# Altium footprint library SparkFun-Switches.PCBLIB: 68 footprints (part 5 of 7)
Each footprint in its own frame and in the unit in brackets; x right, y up, seen from the top. Pads: shape width x height; smd on the part's side, far side on the other; paste and mask are expansions set on the pad; w line width, h text height; cw(c..) or ccw(c..) is an arc to the next point about the centre after c.
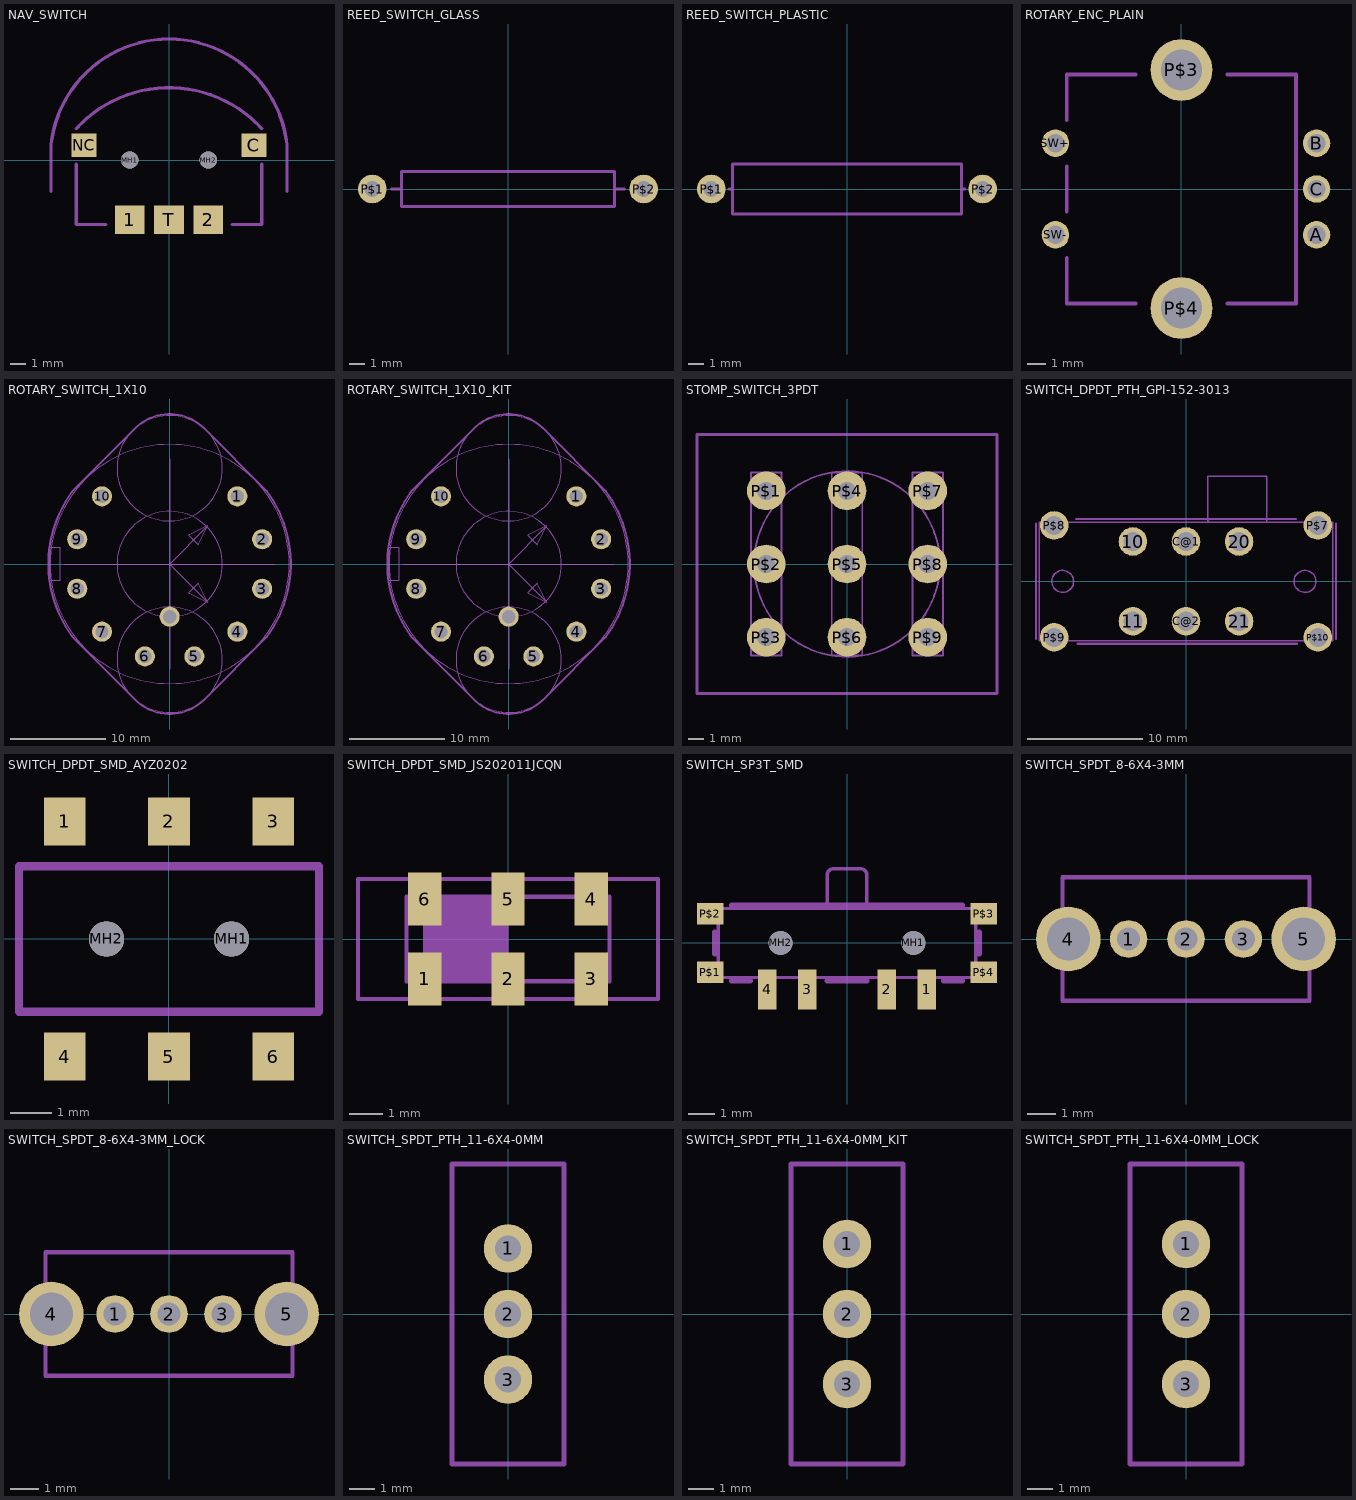
[diagram p4: the footprints below, top view; thin cyan lines are the x and y axes]

## NAV_SWITCH [mil]
pads (7):
  rect 74.8x70.87 smd: 1(-98.43,-149.61) 2(98.43,-149.61) T(0,-149.61)
  rect 62.99x59.06 smd: C(212.6,37.4) NC(-212.6,37.4)
  round 43.31 hole 43.31 unplated: MH1(-98.43,0) MH2(98.43,0)
tDocu:
  lines w8: -295.28,-78.74 -295.28,39.37 cw(c0,5.99) 295.28,39.37 295.28,-78.74
tPlace:
  lines w8: -232.28,-9.84 -232.28,-161.42 -157.48,-161.42 ; -232.28,78.74 cw(c0,-133.63) 232.28,78.74 ; 157.48,-161.42 232.28,-161.42 232.28,-9.84

## REED_SWITCH_GLASS [mil]
pads (2):
  round 74 hole 40: P$1(-350,0) P$2(350,0)
tPlace:
  lines w8: -300,0 -275,0 ; 300,0 275,0 ; -275,0 -275,-45 275,-45 275,0 ; -275,0 -275,45 275,45 275,0

## REED_SWITCH_PLASTIC [mil]
pads (2):
  round 74 hole 40: P$1(-350,0) P$2(350,0)
tPlace:
  lines w8: -303.94,0 -295.28,0 ; 303.94,0 295.28,0 ; -295.28,0 -295.28,-64.96 295.28,-64.96 295.28,0 ; -295.28,0 -295.28,64.96 295.28,64.96 295.28,0

## ROTARY_ENC_PLAIN [mil]
pads (7):
  round 60 hole 40: A(295,-100) B(295,100) C(295,0) SW+(-275,100) SW-(-275,-100)
  round 135 hole 90: P$3(0,260) P$4(0,-260)
tPlace:
  lines w8: -250,-150 -250,-250 -100,-250 ; -250,-50 -250,50 ; -250,150 -250,250 -100,250 ; 100,-250 250,-250 250,250 100,250

## ROTARY_SWITCH_1X10 [mil]
pads (11):
  round 82.68 hole 55.12: 1(278.39,278.39) 2(380.29,101.9) 3(380.29,-101.9) 4(278.39,-278.39) 5(101.9,-380.29) 6(-101.9,-380.29) 7(-278.39,-278.39) 8(-380.29,-101.9) 9(-380.29,101.9) 10(-278.39,278.39) COMMON(0,-216.54)
tDocu:
  circle w5: c0,0 r216.54
  circle w5: c0,0 r492.13
  circle w5: c0,393.7 r216.54
  circle w5: c0,-393.7 r216.54
  lines w5: -433.07,0 0,0 ; 0,-433.07 0,0 ; 0,433.07 0,0 ; 433.07,0 0,0 ; 0,0 157.48,-157.48 ; 0,0 157.48,157.48 ; 157.48,-157.48 118.11,-78.74 78.74,-118.11 157.48,-157.48 ; 157.48,157.48 78.74,118.11 118.11,78.74 157.48,157.48 ; -492.13,-68.9 -452.76,-68.9 -452.76,68.9 -492.13,68.9 -492.13,-68.9
  text "1" at 157.48,-196.85 h42.5
  text "10" at 157.48,157.48 h42.5
tPlace:
  lines w8: -415.1,-277.35 cw(c0.92,0) -415.1,277.35 -400,300 -141.42,558.58 cw(c0,417.16) 141.42,558.58 400,300 414.18,278.73 cw(c-3.91,0) 414.18,-278.73 400,-300 141.42,-558.58 cw(c0,-417.16) -141.42,-558.58 -400,-300 -415.1,-277.35

## ROTARY_SWITCH_1X10_KIT [mil]
pads (11):
  round 82.68 hole 55.12: 1(278.39,278.39) 2(380.29,101.9) 3(380.29,-101.9) 4(278.39,-278.39) 5(101.9,-380.29) 6(-101.9,-380.29) 7(-278.39,-278.39) 8(-380.29,-101.9) 9(-380.29,101.9) 10(-278.39,278.39) COMMON(0,-216.54)
Top Solder:
  circle w0: c-278.39,278.39 r27.56
  circle w0: c-380.29,101.9 r27.56
  circle w0: c-380.29,-101.9 r27.56
  circle w0: c-278.39,-278.39 r27.56
  circle w0: c0,-216.54 r27.56
  circle w0: c-101.9,-380.29 r27.56
  circle w0: c101.9,-380.29 r27.56
  circle w0: c278.39,-278.39 r27.56
  circle w0: c380.29,-101.9 r27.56
  circle w0: c380.29,101.9 r27.56
  circle w0: c278.39,278.39 r27.56
Bottom Solder:
  circle w0: c-278.39,278.39 r41.34
  circle w0: c-380.29,101.9 r41.34
  circle w0: c-380.29,-101.9 r41.34
  circle w0: c0,-216.54 r41.34
  circle w0: c-278.39,-278.39 r41.34
  circle w0: c-101.9,-380.29 r41.34
  circle w0: c101.9,-380.29 r41.34
  circle w0: c278.39,-278.39 r41.34
  circle w0: c380.29,-101.9 r41.34
  circle w0: c380.29,101.9 r41.34
  circle w0: c278.39,278.39 r41.34
tDocu:
  circle w5: c0,0 r216.54
  circle w5: c0,0 r492.13
  circle w5: c0,393.7 r216.54
  circle w5: c0,-393.7 r216.54
  lines w5: -433.07,0 0,0 ; 0,-433.07 0,0 ; 0,433.07 0,0 ; 433.07,0 0,0 ; 0,0 157.48,-157.48 ; 0,0 157.48,157.48 ; 157.48,-157.48 118.11,-78.74 78.74,-118.11 157.48,-157.48 ; 157.48,157.48 78.74,118.11 118.11,78.74 157.48,157.48 ; -492.13,-68.9 -452.76,-68.9 -452.76,68.9 -492.13,68.9 -492.13,-68.9
  text "1" at 157.48,-196.85 h42.5
  text "10" at 157.48,157.48 h42.5
tPlace:
  lines w8: -415.1,-277.35 cw(c0.92,0) -415.1,277.35 -400,300 -141.42,558.58 cw(c0,417.16) 141.42,558.58 400,300 414.18,278.73 cw(c-3.91,0) 414.18,-278.73 400,-300 141.42,-558.58 cw(c0,-417.16) -141.42,-558.58 -400,-300 -415.1,-277.35

## STOMP_SWITCH_3PDT [mil]
pads (9):
  round 100 hole 47.24: P$1(-208.66,188.98) P$2(-208.66,0) P$3(-208.66,-188.98) P$4(0,188.98) P$5(0,0) P$6(0,-188.98) P$7(208.66,188.98) P$8(208.66,0) P$9(208.66,-188.98)
tDocu:
  circle w5: c0,0 r240.16
  lines w5: -248.03,-236.22 -248.03,236.22 -169.29,236.22 -169.29,-236.22 -248.03,-236.22 ; -39.37,-236.22 39.37,-236.22 39.37,236.22 -39.37,236.22 -39.37,-236.22 ; 169.29,-236.22 169.29,236.22 248.03,236.22 248.03,-236.22 169.29,-236.22
tPlace:
  lines w8: -387.8,-334.65 387.8,-334.65 387.8,334.65 -387.8,334.65 -387.8,-334.65

## SWITCH_DPDT_PTH_GPI-152-3013 [mm]
pads (10):
  round 2.475 hole 1.65: 10(-4.6,3.455) 11(-4.6,-3.455) 20(4.6,3.455) 21(4.6,-3.455) C@1(0,3.455) C@2(0,-3.455) P$7(11.43,4.85) P$8(-11.43,4.85) P$9(-11.43,-4.85) P$10(11.43,-4.85)
tDocu:
  circle w0.127: c10.31,0 r0.952
  circle w0.127: c-10.69,0 r0.952
  lines w0.127: 2,5.2 1.9,5.2 1.9,9.1 7,9.1 7,5.2 ; -12.7,-5.13 -12.7,5.13 12.7,5.13 12.7,-5.13 -12.7,-5.13
tPlace:
  lines w0.203: -13,-5 -13,5 ; -9.5,5.4 9.5,5.4 ; -9.4,-5.4 9.6,-5.4 ; 13,-5 13,5

## SWITCH_DPDT_SMD_AYZ0202 [mm]
pads (8):
  rect 1x1.15 smd: 1(-2.5,2.825) 2(0,2.825) 3(2.5,2.825) 4(-2.5,-2.825) 5(0,-2.825) 6(2.5,-2.825)
  round 0.85 hole 0.85 unplated: MH1(1.5,0) MH2(-1.5,0)
tPlace:
  lines w0.203: -3.6,-1.75 -3.6,1.75 3.6,1.75 3.6,-1.75 -3.6,-1.75

## SWITCH_DPDT_SMD_JS202011JCQN [mm]
pads (6):
  rect 1x1.6 smd: 1(-2.5,-1.2) 2(0,-1.2) 3(2.5,-1.2) 4(2.5,1.2) 5(0,1.2) 6(-2.5,1.2)
tDocu:
  region: -2.54,-1.27 -2.54,1.27 0,1.27 0,-1.27
  lines w0.127: -3.048,-1.27 3.048,-1.27 3.048,1.27 -3.048,1.27 -3.048,-1.27
tPlace:
  lines w0.127: -4.5,-1.8 4.5,-1.8 4.5,1.8 -4.5,1.8 -4.5,-1.8

## SWITCH_SP3T_SMD [mm]
pads (10):
  rect 0.7x1.5 smd: 1(3,-1.75) 2(1.5,-1.75) 3(-1.5,-1.75) 4(-3,-1.75)
  round 0.9 hole 0.9 unplated: MH1(2.5,0) MH2(-2.5,0)
  rect 1x0.8 smd: P$1(-5.15,-1.1) P$2(-5.15,1.1) P$3(5.15,1.1) P$4(5.15,-1.1)
tDocu:
  region: 1.3,-2.2 1.3,-1.3 1.7,-1.3 1.7,-2.2
  region: 2.8,-2.2 2.8,-1.3 3.2,-1.3 3.2,-2.2
  region: -1.7,-2.2 -1.7,-1.3 -1.3,-1.3 -1.3,-2.2
  region: -3.2,-2.2 -3.2,-1.3 -2.8,-1.3 -2.8,-2.2
  region: 4.85,0.9 4.85,1.3 5.35,1.3 5.35,0.9
  region: -4.85,1.3 -4.85,0.9 -5.35,0.9 -5.35,1.3
  region: -4.85,-0.9 -4.85,-1.3 -5.35,-1.3 -5.35,-0.9
  region: 4.85,-1.3 4.85,-0.9 5.35,-0.9 5.35,-1.3
  lines w0.127: -0.75,1.3 -0.75,2.55 cw(c-0.5,2.55) -0.5,2.8 0.5,2.8 cw(c0.5,2.55) 0.75,2.55 0.75,1.3 ; -4.85,-1.3 4.85,-1.3 4.85,1.3 -4.85,1.3 -4.85,-1.3
tPlace:
  lines w0.203: -4.977,-0.4 -4.977,0.4 ; -4.35,-1.427 -3.65,-1.427 ; -4.35,1.427 4.35,1.427 ; -0.75,-1.427 0.75,-1.427 ; 3.65,-1.427 4.35,-1.427 ; 4.977,-0.4 4.977,0.4

## SWITCH_SPDT_8-6X4-3MM [mil]
pads (5):
  round 51.5 hole 31.5: 1(-78.74,0) 2(0,0) 3(78.74,0)
  round 88.59 hole 59.06: 4(-161.42,0) 5(161.42,0)
tDocu:
  region: -169.29,-23.62 -169.29,23.62 -153.54,23.62 -153.54,-23.62
  region: 153.54,-23.62 153.54,23.62 169.29,23.62 169.29,-23.62
  region: -9.84,-5.91 -9.84,5.91 9.84,5.91 9.84,-5.91
  region: -88.58,-5.91 -88.58,5.91 -68.9,5.91 -68.9,-5.91
  region: 68.9,-5.91 68.9,5.91 88.58,5.91 88.58,-5.91
tPlace:
  lines w6: -169.29,-84.65 169.29,-84.65 169.29,84.65 -169.29,84.65 -169.29,-84.65

## SWITCH_SPDT_8-6X4-3MM_LOCK [mil]
pads (5):
  round 51.5 hole 31.5: 1(-74.02,0) 2(0,0) 3(74.02,0)
  round 88.59 hole 59.06: 4(-161.42,0) 5(161.42,0)
tDocu:
  region: -169.29,-23.62 -169.29,23.62 -153.54,23.62 -153.54,-23.62
  region: 153.54,-23.62 153.54,23.62 169.29,23.62 169.29,-23.62
  region: -9.84,-5.91 -9.84,5.91 9.84,5.91 9.84,-5.91
  region: -88.58,-5.91 -88.58,5.91 -68.9,5.91 -68.9,-5.91
  region: 68.9,-5.91 68.9,5.91 88.58,5.91 88.58,-5.91
tPlace:
  lines w6: -169.29,-84.65 169.29,-84.65 169.29,84.65 -169.29,84.65 -169.29,-84.65

## SWITCH_SPDT_PTH_11-6X4-0MM [mil]
pads (3):
  round 74 hole 40: 1(0,100) 2(0,0) 3(0,-100)
tPlace:
  lines w8: -85.63,-228.94 -85.63,228.94 85.63,228.94 85.63,-228.94 -85.63,-228.94

## SWITCH_SPDT_PTH_11-6X4-0MM_KIT [mil]
pads (3):
  round 74 hole 40: 1(0,107) 2(0,0) 3(0,-107)
Top Solder:
  region: 0,89.6 -3.4,89.52 -9.75,91.98 -14.67,96.67 -17.42,102.9 -17.5,106.3 -17.59,109.87 -15.02,116.54 -10.1,121.71 -3.57,124.61 0,124.7 3.52,124.64 9.98,121.84 14.88,116.77 17.46,110.22 17.4,106.7 17.37,103.27 14.69,96.95 9.79,92.14 3.43,89.57 0,89.6
  region: 0.1,-124.6 -3.3,-124.68 -9.65,-122.22 -14.57,-117.53 -17.32,-111.3 -17.4,-107.9 -17.49,-104.33 -14.92,-97.66 -10,-92.49 -3.47,-89.59 0.1,-89.5 3.62,-89.56 10.08,-92.36 14.98,-97.43 17.56,-103.98 17.5,-107.5 17.47,-110.93 14.79,-117.25 9.89,-122.06 3.53,-124.63 0.1,-124.6
  region: 0.4,-17.6 -3,-17.68 -9.35,-15.22 -14.27,-10.53 -17.02,-4.3 -17.1,-0.9 -17.19,2.67 -14.62,9.34 -9.7,14.51 -3.17,17.41 0.4,17.5 3.92,17.44 10.38,14.64 15.28,9.57 17.86,3.02 17.8,-0.5 17.77,-3.93 15.09,-10.25 10.19,-15.06 3.83,-17.63 0.4,-17.6
Bottom Solder:
  region: -0.7,72.5 -4.03,72.49 -10.56,73.77 -16.72,76.3 -22.27,79.98 -26.99,84.67 -30.7,90.2 -33.27,96.34 -34.58,102.87 -34.59,106.2 -34.62,109.63 -33.35,116.38 -30.79,122.75 -27.04,128.49 -22.23,133.39 -16.56,137.27 -10.25,139.96 -3.53,141.37 -0.1,141.4 3.33,141.37 10.05,139.96 16.37,137.27 22.04,133.4 26.84,128.49 30.6,122.75 33.16,116.38 34.43,109.63 34.4,106.2 34.33,102.81 32.88,96.19 30.16,89.98 26.28,84.42 21.39,79.73 15.68,76.08 9.36,73.62 2.69,72.43 -0.7,72.5
  region: -0.2,-141.6 -3.55,-141.64 -10.13,-140.41 -16.35,-137.92 -21.96,-134.27 -26.76,-129.59 -30.54,-124.06 -33.18,-117.9 -34.56,-111.35 -34.6,-108 -34.63,-104.51 -33.33,-97.66 -30.72,-91.2 -26.89,-85.36 -22,-80.39 -16.24,-76.47 -9.82,-73.75 -2.99,-72.33 0.5,-72.3 3.94,-72.37 10.67,-73.86 16.97,-76.63 22.61,-80.58 27.38,-85.55 31.08,-91.36 33.58,-97.78 34.77,-104.56 34.7,-108 34.64,-111.37 33.2,-117.97 30.5,-124.15 26.64,-129.69 21.78,-134.37 16.1,-138.01 9.82,-140.48 3.17,-141.67 -0.2,-141.6
  region: -0.4,-34.4 -3.73,-34.43 -10.28,-33.17 -16.46,-30.67 -22.04,-27 -26.79,-22.32 -30.53,-16.81 -33.13,-10.66 -34.48,-4.13 -34.5,-0.8 -34.52,2.67 -33.19,9.49 -30.56,15.92 -26.73,21.71 -21.84,26.64 -16.08,30.52 -9.68,33.2 -2.87,34.59 0.6,34.6 3.98,34.55 10.6,33.12 16.81,30.43 22.38,26.58 27.09,21.72 30.76,16.04 33.25,9.74 34.46,3.08 34.41,-0.3 34.38,-3.69 32.98,-10.34 30.32,-16.58 26.5,-22.19 21.65,-26.94 15.96,-30.65 9.66,-33.18 2.99,-34.44 -0.4,-34.4
tDocu:
  region: -9,-12 -9,12 9,12 9,-12
  region: -9,88 -9,112 9,112 9,88
  region: -9,-112 -9,-88 9,-88 9,-112
tPlace:
  lines w8: -85.63,-228.94 -85.63,228.94 85.63,228.94 85.63,-228.94 -85.63,-228.94

## SWITCH_SPDT_PTH_11-6X4-0MM_LOCK [mil]
pads (3):
  round 74 hole 40: 1(0,107) 2(0,0) 3(0,-107)
tDocu:
  region: -9,-12 -9,12 9,12 9,-12
  region: -9,88 -9,112 9,112 9,88
  region: -9,-112 -9,-88 9,-88 9,-112
tPlace:
  lines w8: -85.63,-228.94 -85.63,228.94 85.63,228.94 85.63,-228.94 -85.63,-228.94